# Altium schematic symbol library SCH - MCU - INFINEON - INFINEON S6E1B36E0XXV2 LQFP-80.SchLib: 1 symbol
Pins are listed as number, name and electrical type; pins without a type are passive.

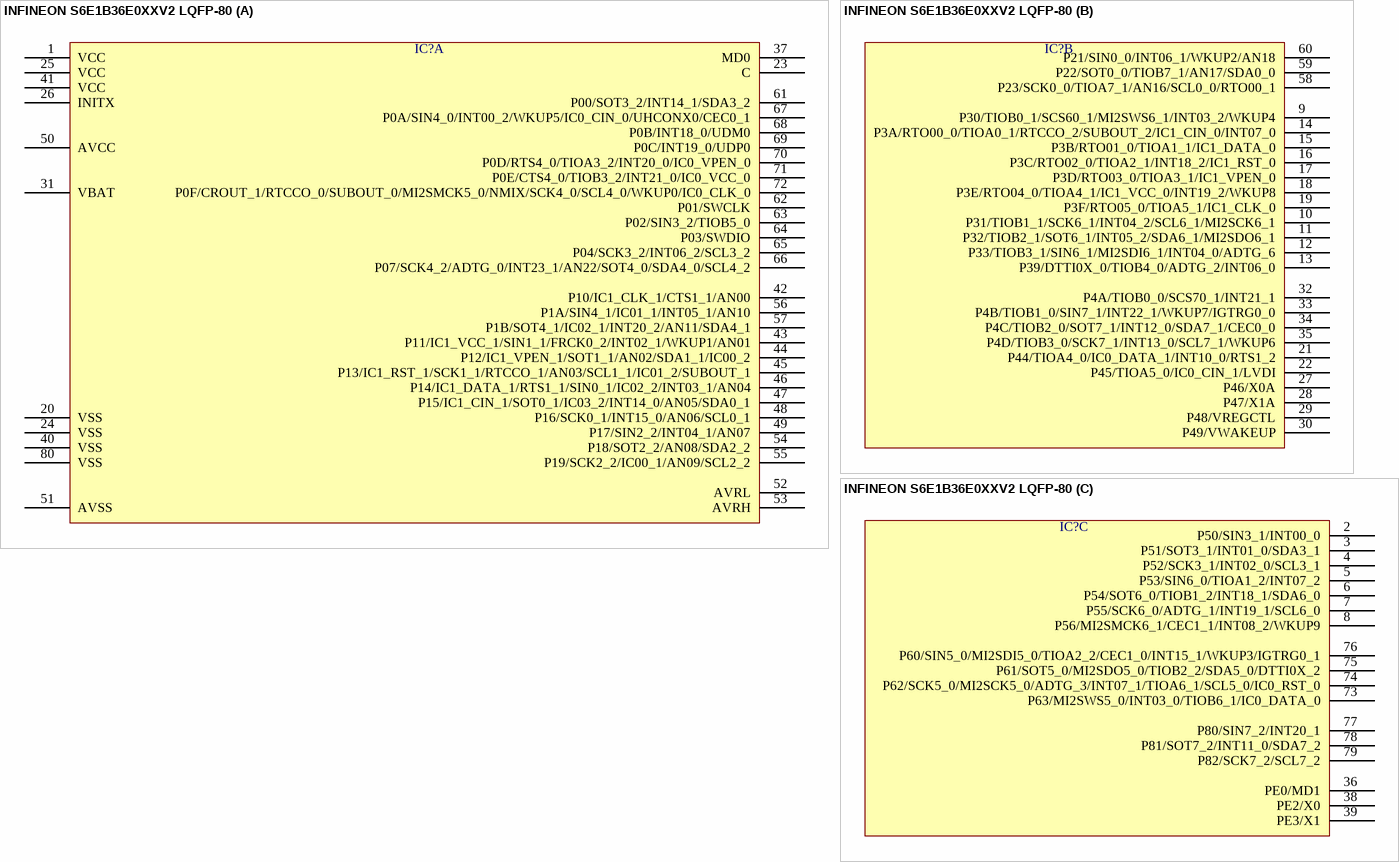
[diagram p0: symbol INFINEON S6E1B36E0XXV2 LQFP-80]

## INFINEON S6E1B36E0XXV2 LQFP-80
designator IC?  (value not drawn)
part A pins: 1 VCC, 20 VSS, 23 C, 24 VSS, 25 VCC, 26 INITX, 31 VBAT, 37 MD0, 40 VSS, 41 VCC, 42 P10/IC1_CLK_1/CTS1_1/AN00, 43 P11/IC1_VCC_1/SIN1_1/FRCK0_2/INT02_1/WKUP1/AN01, 44 P12/IC1_VPEN_1/SOT1_1/AN02/SDA1_1/IC00_2, 45 P13/IC1_RST_1/SCK1_1/RTCCO_1/AN03/SCL1_1/IC01_2/SUBOUT_1, 46 P14/IC1_DATA_1/RTS1_1/SIN0_1/IC02_2/INT03_1/AN04, 47 P15/IC1_CIN_1/SOT0_1/IC03_2/INT14_0/AN05/SDA0_1, 48 P16/SCK0_1/INT15_0/AN06/SCL0_1, 49 P17/SIN2_2/INT04_1/AN07, 50 AVCC, 51 AVSS, 52 AVRL, 53 AVRH, 54 P18/SOT2_2/AN08/SDA2_2, 55 P19/SCK2_2/IC00_1/AN09/SCL2_2, 56 P1A/SIN4_1/IC01_1/INT05_1/AN10, 57 P1B/SOT4_1/IC02_1/INT20_2/AN11/SDA4_1, 61 P00/SOT3_2/INT14_1/SDA3_2, 62 P01/SWCLK, 63 P02/SIN3_2/TIOB5_0, 64 P03/SWDIO, 65 P04/SCK3_2/INT06_2/SCL3_2, 66 P07/SCK4_2/ADTG_0/INT23_1/AN22/SOT4_0/SDA4_0/SCL4_2, 67 P0A/SIN4_0/INT00_2/WKUP5/IC0_CIN_0/UHCONX0/CEC0_1, 68 P0B/INT18_0/UDM0, 69 P0C/INT19_0/UDP0, 70 P0D/RTS4_0/TIOA3_2/INT20_0/IC0_VPEN_0, 71 P0E/CTS4_0/TIOB3_2/INT21_0/IC0_VCC_0, 72 P0F/CROUT_1/RTCCO_0/SUBOUT_0/MI2SMCK5_0/NMIX/SCK4_0/SCL4_0/WKUP0/IC0_CLK_0, 80 VSS
part B pins: 9 P30/TIOB0_1/SCS60_1/MI2SWS6_1/INT03_2/WKUP4, 10 P31/TIOB1_1/SCK6_1/INT04_2/SCL6_1/MI2SCK6_1, 11 P32/TIOB2_1/SOT6_1/INT05_2/SDA6_1/MI2SDO6_1, 12 P33/TIOB3_1/SIN6_1/MI2SDI6_1/INT04_0/ADTG_6, 13 P39/DTTI0X_0/TIOB4_0/ADTG_2/INT06_0, 14 P3A/RTO00_0/TIOA0_1/RTCCO_2/SUBOUT_2/IC1_CIN_0/INT07_0, 15 P3B/RTO01_0/TIOA1_1/IC1_DATA_0, 16 P3C/RTO02_0/TIOA2_1/INT18_2/IC1_RST_0, 17 P3D/RTO03_0/TIOA3_1/IC1_VPEN_0, 18 P3E/RTO04_0/TIOA4_1/IC1_VCC_0/INT19_2/WKUP8, 19 P3F/RTO05_0/TIOA5_1/IC1_CLK_0, 21 P44/TIOA4_0/IC0_DATA_1/INT10_0/RTS1_2, 22 P45/TIOA5_0/IC0_CIN_1/LVDI, 27 P46/X0A, 28 P47/X1A, 29 P48/VREGCTL, 30 P49/VWAKEUP, 32 P4A/TIOB0_0/SCS70_1/INT21_1, 33 P4B/TIOB1_0/SIN7_1/INT22_1/WKUP7/IGTRG0_0, 34 P4C/TIOB2_0/SOT7_1/INT12_0/SDA7_1/CEC0_0, 35 P4D/TIOB3_0/SCK7_1/INT13_0/SCL7_1/WKUP6, 58 P23/SCK0_0/TIOA7_1/AN16/SCL0_0/RTO00_1, 59 P22/SOT0_0/TIOB7_1/AN17/SDA0_0, 60 P21/SIN0_0/INT06_1/WKUP2/AN18
part C pins: 2 P50/SIN3_1/INT00_0, 3 P51/SOT3_1/INT01_0/SDA3_1, 4 P52/SCK3_1/INT02_0/SCL3_1, 5 P53/SIN6_0/TIOA1_2/INT07_2, 6 P54/SOT6_0/TIOB1_2/INT18_1/SDA6_0, 7 P55/SCK6_0/ADTG_1/INT19_1/SCL6_0, 8 P56/MI2SMCK6_1/CEC1_1/INT08_2/WKUP9, 36 PE0/MD1, 38 PE2/X0, 39 PE3/X1, 73 P63/MI2SWS5_0/INT03_0/TIOB6_1/IC0_DATA_0, 74 P62/SCK5_0/MI2SCK5_0/ADTG_3/INT07_1/TIOA6_1/SCL5_0/IC0_RST_0, 75 P61/SOT5_0/MI2SDO5_0/TIOB2_2/SDA5_0/DTTI0X_2, 76 P60/SIN5_0/MI2SDI5_0/TIOA2_2/CEC1_0/INT15_1/WKUP3/IGTRG0_1, 77 P80/SIN7_2/INT20_1, 78 P81/SOT7_2/INT11_0/SDA7_2, 79 P82/SCK7_2/SCL7_2